# Altium footprint library inductor-nkl.PCBLIB: 59 footprints (part 1 of 4)
Each footprint in its own frame and in the unit in brackets; x right, y up, seen from the top. Pads: shape width x height; smd on the part's side, far side on the other; paste and mask are expansions set on the pad; w line width, h text height; cw(c..) or ccw(c..) is an arc to the next point about the centre after c.
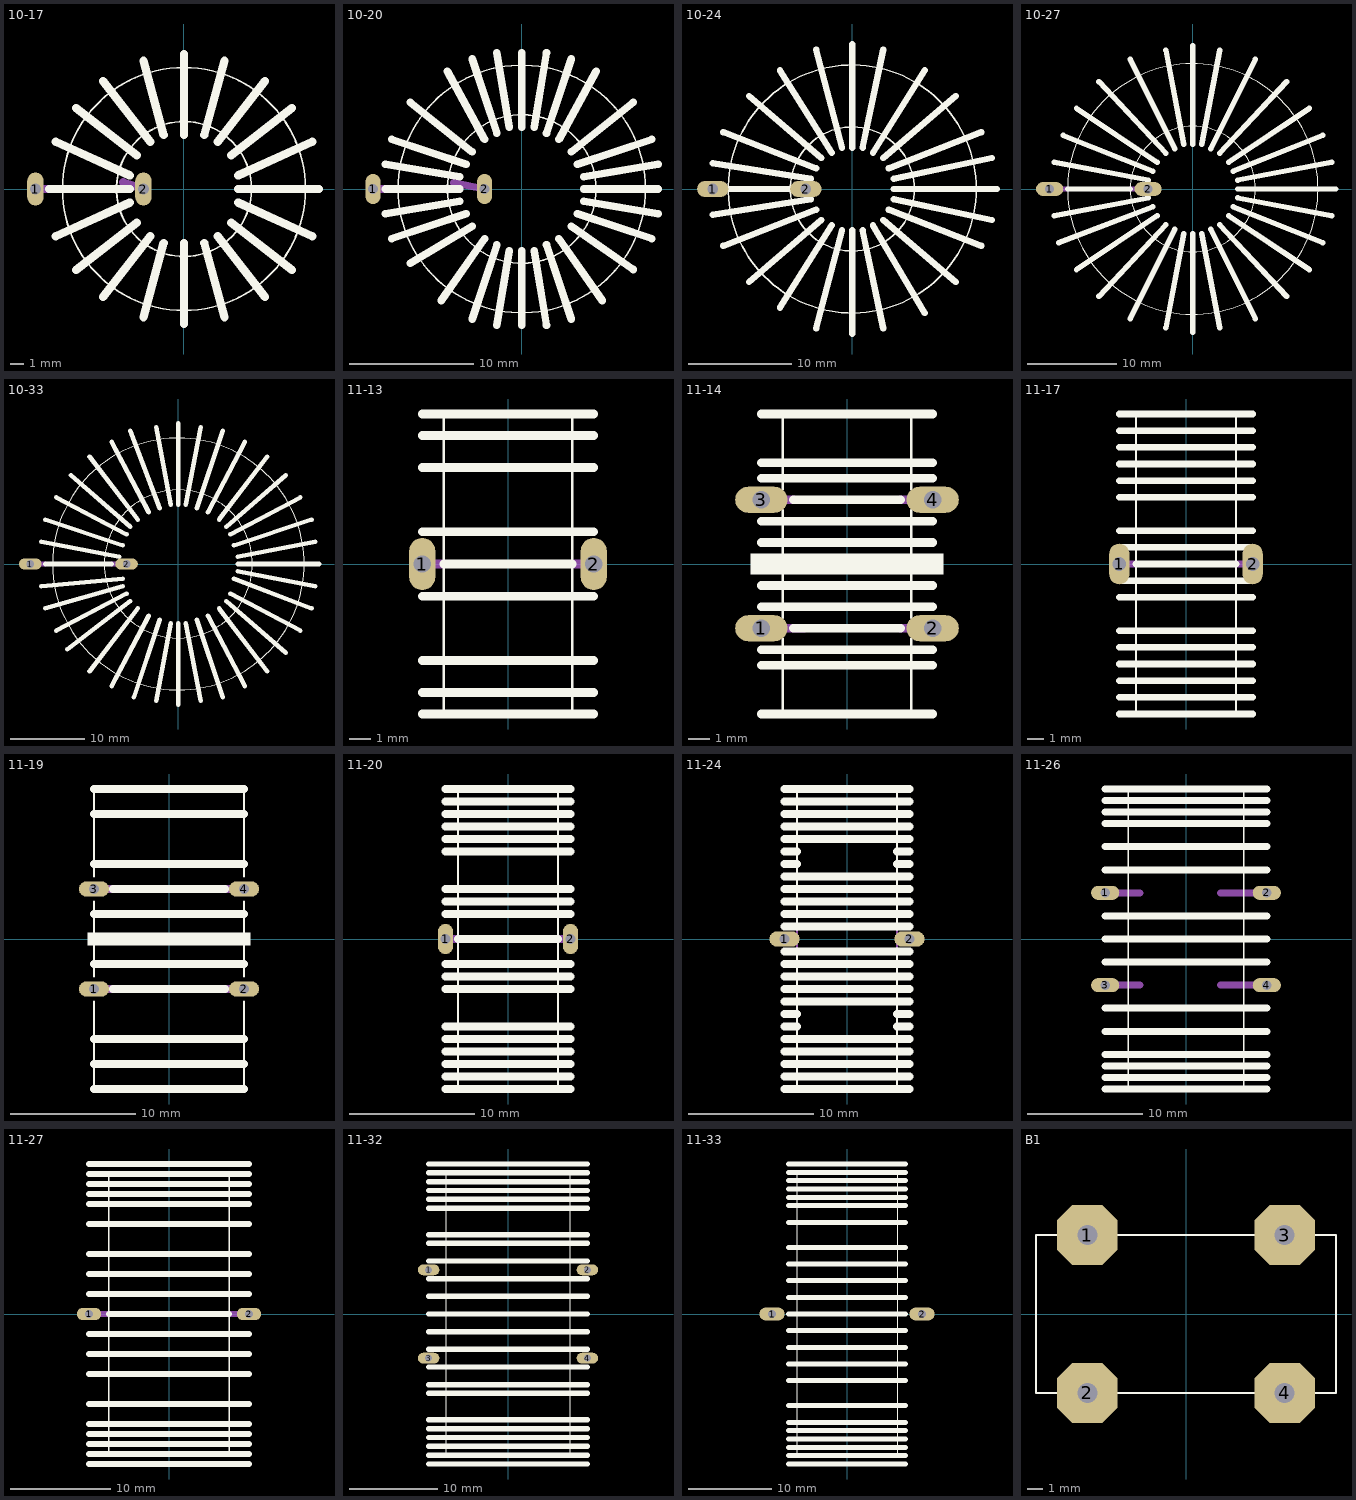
[diagram p0: the footprints below, top view; thin cyan lines are the x and y axes]

## 10-17 [mil]
pads (2):
  oval 48x96 hole 32: 1(-433.07,0) 2(-118.11,0)
Top Overlay:
  circle w5: c0,0 r354.33
  circle w5: c0,0 r196.85
  lines w24: -393.7,0 -157.48,0 ; -374.02,-137.8 -157.48,-39.37 ; -374.02,137.8 -157.48,39.37 ; -314.96,-236.22 -137.8,-98.43 ; -314.96,236.22 -137.8,98.43 ; -236.22,-314.96 -98.43,-137.8 ; -236.22,314.96 -98.43,137.8 ; -118.11,-374.02 -59.06,-157.48 ; -118.11,374.02 -59.06,157.48 ; 0,-393.7 0,-157.48 ; 0,157.48 0,393.7 ; 59.06,-157.48 118.11,-374.02 ; 59.06,157.48 118.11,374.02 ; 98.43,-137.8 236.22,-314.96 ; 98.43,137.8 236.22,314.96 ; 137.8,-98.43 314.96,-236.22 ; 137.8,98.43 314.96,236.22 ; 157.48,-39.37 374.02,-137.8 ; 157.48,0 393.7,0 ; 157.48,39.37 374.02,137.8
Mechanical 16:
  lines w24: -433.07,0 -393.7,0 ; -177.17,19.69 -118.11,0

## 10-20 [mil]
pads (2):
  oval 48x96 hole 32: 1(-472.44,0) 2(-118.11,0)
Top Overlay:
  circle w5: c0,0 r393.7
  circle w5: c0,0 r236.22
  lines w24: -433.07,-78.74 -196.85,-39.37 ; -433.07,0 -196.85,0 ; -433.07,78.74 -196.85,39.37 ; -413.39,-157.48 -177.17,-78.74 ; -413.39,157.48 -177.17,78.74 ; -354.33,-236.22 -157.48,-118.11 ; -354.33,275.59 -157.48,118.11 ; -255.91,-354.33 -118.11,-157.48 ; -236.22,374.02 -118.11,157.48 ; -157.48,-413.39 -78.74,-177.17 ; -157.48,413.39 -78.74,177.17 ; -78.74,-433.07 -39.37,-196.85 ; -78.74,433.07 -39.37,196.85 ; 0,-433.07 0,-196.85 ; 0,196.85 0,433.07 ; 39.37,-196.85 78.74,-433.07 ; 39.37,196.85 78.74,433.07 ; 78.74,-177.17 157.48,-413.39 ; 78.74,177.17 157.48,413.39 ; 118.11,-157.48 255.91,-354.33 ; 118.11,157.48 236.22,374.02 ; 157.48,-118.11 354.33,-255.91 ; 157.48,118.11 354.33,275.59 ; 177.17,-78.74 413.39,-157.48 ; 177.17,78.74 413.39,157.48 ; 196.85,-39.37 433.07,-78.74 ; 196.85,0 433.07,0 ; 196.85,39.37 433.07,78.74
Mechanical 16:
  lines w24: -472.44,0 -433.07,0 ; -216.54,19.69 -118.11,0

## 10-24 [mil]
pads (2):
  oval 120x60 hole 40: 1(-531.5,0) 2(-177.17,0)
Top Overlay:
  circle w5: c0,0 r472.44
  circle w5: c0,0 r236.22
  lines w24: -531.5,-98.43 -157.48,-39.37 ; -531.5,98.43 -157.48,39.37 ; -492.13,-216.54 -137.8,-78.74 ; -492.13,216.54 -137.8,78.74 ; -472.44,0 -236.22,0 ; -393.7,-354.33 -118.11,-118.11 ; -393.7,354.33 -118.11,118.11 ; -275.59,-452.76 -78.74,-137.8 ; -275.59,452.76 -78.74,137.8 ; -137.8,-531.5 -39.37,-157.48 ; -137.8,531.5 -39.37,157.48 ; 0,-551.18 0,-157.48 ; 0,157.48 0,551.18 ; 39.37,-157.48 118.11,-531.5 ; 39.37,157.48 118.11,531.5 ; 78.74,-137.8 275.59,-472.44 ; 78.74,137.8 275.59,452.76 ; 118.11,-118.11 393.7,-354.33 ; 118.11,118.11 393.7,354.33 ; 137.8,-78.74 492.13,-216.54 ; 137.8,78.74 492.13,216.54 ; 157.48,-39.37 531.5,-118.11 ; 157.48,0 551.18,0 ; 157.48,39.37 531.5,118.11
Mechanical 16:
  lines w24: -531.5,0 -472.44,0 ; -236.22,0 -177.17,0

## 10-27 [mil]
pads (2):
  oval 120x60 hole 40: 1(-629.92,0) 2(-196.85,0)
Top Overlay:
  circle w5: c0,0 r551.18
  circle w5: c0,0 r275.59
  lines w24: -610.24,-118.11 -196.85,-39.37 ; -610.24,118.11 -196.85,39.37 ; -590.55,-236.22 -177.17,-78.74 ; -570.87,236.22 -177.17,78.74 ; -551.18,0 -275.59,0 ; -511.81,-354.33 -157.48,-118.11 ; -511.81,354.33 -157.48,118.11 ; -413.39,-472.44 -118.11,-157.48 ; -413.39,472.44 -118.11,157.48 ; -275.59,-570.87 -78.74,-177.17 ; -275.59,570.87 -78.74,177.17 ; -118.11,-610.24 -39.37,-196.85 ; -118.11,610.24 -39.37,196.85 ; 0,-629.92 0,-196.85 ; 0,196.85 0,629.92 ; 39.37,-196.85 118.11,-610.24 ; 39.37,196.85 118.11,610.24 ; 78.74,-177.17 275.59,-570.87 ; 78.74,177.17 275.59,570.87 ; 118.11,-157.48 413.39,-472.44 ; 118.11,157.48 413.39,472.44 ; 157.48,-118.11 511.81,-354.33 ; 157.48,118.11 511.81,354.33 ; 177.17,-78.74 570.87,-236.22 ; 177.17,78.74 570.87,236.22 ; 196.85,-39.37 610.24,-118.11 ; 196.85,0 629.92,0 ; 196.85,39.37 610.24,118.11
Mechanical 16:
  lines w24: -629.92,0 -551.18,0 ; -275.59,0 -196.85,0

## 10-33 [mil]
pads (2):
  oval 120x60 hole 40: 1(-787.4,0) 2(-275.59,0)
Top Overlay:
  circle w5: c0,0 r669.29
  circle w5: c0,0 r393.7
  lines w24: -728.35,-118.11 -295.28,-78.74 ; -728.35,118.11 -314.96,39.37 ; -708.66,-236.22 -295.28,-118.11 ; -708.66,0 -354.33,0 ; -708.66,236.22 -295.28,98.43 ; -649.61,-354.33 -275.59,-157.48 ; -649.61,354.33 -275.59,157.48 ; -590.55,-452.76 -255.91,-196.85 ; -570.87,472.44 -255.91,196.85 ; -472.44,-570.87 -216.54,-236.22 ; -472.44,570.87 -216.54,236.22 ; -354.33,-649.61 -157.48,-275.59 ; -354.33,649.61 -157.48,275.59 ; -255.91,708.66 -98.43,295.28 ; -236.22,-708.66 -98.43,-295.28 ; -118.11,-728.35 -39.37,-314.96 ; -118.11,728.35 -39.37,314.96 ; 0,-748.03 0,-314.96 ; 0,314.96 0,748.03 ; 39.37,-314.96 118.11,-728.35 ; 39.37,314.96 118.11,728.35 ; 98.43,-295.28 236.22,-708.66 ; 98.43,295.28 236.22,708.66 ; 157.48,-275.59 354.33,-649.61 ; 157.48,275.59 354.33,649.61 ; 216.54,-236.22 472.44,-570.87 ; 216.54,236.22 472.44,570.87 ; 255.91,-196.85 570.87,-472.44 ; 255.91,196.85 570.87,472.44 ; 275.59,-157.48 649.61,-354.33 ; 275.59,157.48 649.61,354.33 ; 295.28,-78.74 708.66,-236.22 ; 295.28,98.43 708.66,236.22 ; 314.96,-39.37 728.35,-118.11 ; 314.96,0 748.03,0 ; 314.96,39.37 728.35,118.11
Mechanical 16:
  lines w24: -787.4,0 -708.66,0 ; -354.33,0 -275.59,0

## 11-13 [mil]
pads (2):
  oval 48x96 hole 32: 1(-157.48,0) 2(157.48,0)
Top Overlay:
  lines w5: -118.11,-275.59 -118.11,0 -118.11,275.59 118.11,275.59 118.11,0 118.11,-275.59 -118.11,-275.59
  lines w16: -157.48,-275.59 157.48,-275.59 ; -157.48,-236.22 157.48,-236.22 ; -157.48,-177.17 157.48,-177.17 ; -157.48,-59.06 157.48,-59.06 ; -157.48,59.06 157.48,59.06 ; -157.48,177.17 157.48,177.17 ; -157.48,236.22 157.48,236.22 ; -157.48,275.59 157.48,275.59 ; -118.11,0 118.11,0
Mechanical 16:
  lines w16: -157.48,0 -118.11,0 ; 118.11,0 157.48,0

## 11-14 [mil]
pads (4):
  oval 96x48 hole 32: 1(-157.48,-118.11) 2(157.48,-118.11) 3(-157.48,118.11) 4(157.48,118.11)
Top Overlay:
  rectangle: -177.17,-19.69 177.17,19.69
  lines w5: -118.11,-137.8 -118.11,-275.59 118.11,-275.59 118.11,-137.8 ; -118.11,-98.43 -118.11,98.43 ; -118.11,137.8 -118.11,275.59 118.11,275.59 118.11,137.8 ; 118.11,-98.43 118.11,98.43
  lines w16: -157.48,-275.59 157.48,-275.59 ; -157.48,-186.22 157.48,-186.22 ; -157.48,-157.48 157.48,-157.48 ; -157.48,-78.74 157.48,-78.74 ; -157.48,-39.37 157.48,-39.37 ; -157.48,39.37 157.48,39.37 ; -157.48,78.74 157.48,78.74 ; -157.48,157.48 157.48,157.48 ; -157.48,186.22 157.48,186.22 ; -157.48,275.59 157.48,275.59 ; -98.43,-118.11 98.43,-118.11 ; -98.43,118.11 98.43,118.11
Mechanical 16:
  lines w16: -157.48,-118.11 -78.74,-118.11 ; -157.48,118.11 -98.43,118.11 ; 98.43,-118.11 157.48,-118.11 ; 98.43,118.11 157.48,118.11

## 11-17 [mil]
pads (2):
  oval 48x96 hole 32: 1(-157.48,0) 2(157.48,0)
Top Overlay:
  lines w5: -118.11,-354.33 118.11,-354.33 118.11,0 118.11,354.33 -118.11,354.33 -118.11,0 -118.11,-354.33
  lines w16: -157.48,-354.33 157.48,-354.33 ; -157.48,-314.96 157.48,-314.96 ; -157.48,-275.59 157.48,-275.59 ; -157.48,-236.22 157.48,-236.22 ; -157.48,-196.85 157.48,-196.85 ; -157.48,-157.48 157.48,-157.48 ; -157.48,-78.74 157.48,-78.74 ; -157.48,-39.37 157.48,-39.37 ; -157.48,39.37 157.48,39.37 ; -157.48,78.74 157.48,78.74 ; -157.48,157.48 157.48,157.48 ; -157.48,196.85 157.48,196.85 ; -157.48,236.22 157.48,236.22 ; -157.48,275.59 157.48,275.59 ; -157.48,314.96 157.48,314.96 ; -157.48,354.33 157.48,354.33 ; -118.11,0 118.11,0
Mechanical 16:
  lines w16: -157.48,0 -118.11,0 ; 118.11,0 157.48,0

## 11-19 [mil]
pads (4):
  oval 96x48 hole 32: 1(-236.22,-157.48) 2(236.22,-157.48) 3(-236.22,157.48) 4(236.22,157.48)
Top Overlay:
  rectangle: -255.91,-19.69 255.91,19.69
  lines w5: -236.22,-472.44 -236.22,-393.7 -236.22,-314.96 -236.22,-196.85 ; -236.22,-118.11 -236.22,-78.74 -236.22,78.74 -236.22,118.11 ; -236.22,196.85 -236.22,236.22 -236.22,393.7 -236.22,472.44 ; 236.22,-472.44 236.22,-393.7 236.22,-314.96 236.22,-196.85 ; 236.22,-118.11 236.22,-78.74 236.22,78.74 236.22,118.11 ; 236.22,196.85 236.22,236.22 236.22,393.7 236.22,472.44
  lines w24: -236.22,-472.44 236.22,-472.44 ; -236.22,-393.7 236.22,-393.7 ; -236.22,-314.96 236.22,-314.96 ; -236.22,-78.74 236.22,-78.74 ; -236.22,78.74 236.22,78.74 ; -236.22,236.22 236.22,236.22 ; -236.22,393.7 236.22,393.7 ; -236.22,472.44 236.22,472.44 ; -177.17,-157.48 177.17,-157.48 ; -177.17,157.48 177.17,157.48
Mechanical 16:
  lines w24: -236.22,-157.48 -157.48,-157.48 ; -236.22,157.48 -157.48,157.48 ; 157.48,-157.48 236.22,-157.48 ; 157.48,157.48 236.22,157.48

## 11-20 [mil]
pads (2):
  oval 48x96 hole 32: 1(-196.85,0) 2(196.85,0)
Top Overlay:
  lines w5: -157.48,-472.44 -157.48,472.44 157.48,472.44 157.48,-472.44 -157.48,-472.44
  lines w24: -196.85,-472.44 196.85,-472.44 ; -196.85,-433.07 196.85,-433.07 ; -196.85,-393.7 196.85,-393.7 ; -196.85,-354.33 196.85,-354.33 ; -196.85,-314.96 196.85,-314.96 ; -196.85,-275.59 196.85,-275.59 ; -196.85,-157.48 196.85,-157.48 ; -196.85,-118.11 196.85,-118.11 ; -196.85,-78.74 196.85,-78.74 ; -196.85,78.74 196.85,78.74 ; -196.85,118.11 196.85,118.11 ; -196.85,157.48 196.85,157.48 ; -196.85,275.59 196.85,275.59 ; -196.85,314.96 196.85,314.96 ; -196.85,354.33 196.85,354.33 ; -196.85,393.7 196.85,393.7 ; -196.85,433.07 196.85,433.07 ; -196.85,472.44 196.85,472.44 ; -157.48,0 157.48,0
Mechanical 16:
  lines w24: -196.85,0 -157.48,0 ; 157.48,0 196.85,0

## 11-24 [mil]
pads (2):
  oval 96x48 hole 32: 1(-196.85,0) 2(196.85,0)
Top Overlay:
  lines w5: -157.48,-472.44 -157.48,-27.56 ; -157.48,27.56 -157.48,472.44 ; 157.48,-472.44 157.48,-27.56 ; 157.48,27.56 157.48,472.44
  lines w24: -196.85,-472.44 -157.48,-472.44 157.48,-472.44 196.85,-472.44 ; -196.85,-433.07 196.85,-433.07 ; -196.85,-393.7 196.85,-393.7 ; -196.85,-354.33 196.85,-354.33 ; -196.85,-314.96 196.85,-314.96 ; -196.85,-275.59 -157.48,-275.59 ; -196.85,-236.22 -157.48,-236.22 ; -196.85,-196.85 196.85,-196.85 ; -196.85,-157.48 196.85,-157.48 ; -196.85,-118.11 196.85,-118.11 ; -196.85,-78.74 196.85,-78.74 ; -196.85,-39.37 196.85,-39.37 ; -196.85,39.37 196.85,39.37 ; -196.85,78.74 196.85,78.74 ; -196.85,118.11 196.85,118.11 ; -196.85,157.48 196.85,157.48 ; -196.85,196.85 196.85,196.85 ; -196.85,236.22 -157.48,236.22 ; -196.85,275.59 -157.48,275.59 ; -196.85,314.96 196.85,314.96 ; -196.85,354.33 196.85,354.33 ; -196.85,393.7 196.85,393.7 ; -196.85,433.07 196.85,433.07 ; -196.85,472.44 -157.48,472.44 157.48,472.44 196.85,472.44 ; 157.48,-275.59 196.85,-275.59 ; 157.48,-236.22 196.85,-236.22 ; 157.48,236.22 196.85,236.22 ; 157.48,275.59 196.85,275.59
Mechanical 16:
  lines w5: -157.48,-472.44 -157.48,472.44 ; 157.48,-472.44 157.48,472.44

## 11-26 [mil]
pads (4):
  oval 96x48 hole 32: 1(-275.59,157.48) 2(275.59,157.48) 3(-275.59,-157.48) 4(275.59,-157.48)
Top Overlay:
  lines w5: -196.85,-511.81 196.85,-511.81 196.85,511.81 -196.85,511.81 -196.85,-511.81
  lines w24: -275.59,-511.81 275.59,-511.81 ; -275.59,-472.44 275.59,-472.44 ; -275.59,-433.07 275.59,-433.07 ; -275.59,-393.7 275.59,-393.7 ; -275.59,-314.96 275.59,-314.96 ; -275.59,-236.22 275.59,-236.22 ; -275.59,-78.74 275.59,-78.74 ; -275.59,0 275.59,0 ; -275.59,78.74 275.59,78.74 ; -275.59,236.22 275.59,236.22 ; -275.59,314.96 275.59,314.96 ; -275.59,393.7 275.59,393.7 ; -275.59,433.07 275.59,433.07 ; -275.59,472.44 275.59,472.44 ; -275.59,511.81 275.59,511.81
Mechanical 16:
  lines w24: -275.59,-157.48 -157.48,-157.48 ; -275.59,157.48 -157.48,157.48 ; 118.11,-157.48 275.59,-157.48 ; 118.11,157.48 275.59,157.48

## 11-27 [mil]
pads (2):
  oval 96x48 hole 32: 1(-314.96,0) 2(314.96,0)
Top Overlay:
  lines w5: -236.22,-551.18 236.22,-551.18 236.22,0 236.22,551.18 -236.22,551.18 -236.22,0 -236.22,-551.18
  lines w24: -314.96,-590.55 314.96,-590.55 ; -314.96,-551.18 314.96,-551.18 ; -314.96,-511.81 314.96,-511.81 ; -314.96,-472.44 314.96,-472.44 ; -314.96,-433.07 314.96,-433.07 ; -314.96,-354.33 314.96,-354.33 ; -314.96,-236.22 314.96,-236.22 ; -314.96,-157.48 314.96,-157.48 ; -314.96,-78.74 314.96,-78.74 ; -314.96,78.74 314.96,78.74 ; -314.96,157.48 314.96,157.48 ; -314.96,236.22 314.96,236.22 ; -314.96,354.33 314.96,354.33 ; -314.96,433.07 314.96,433.07 ; -314.96,472.44 314.96,472.44 ; -314.96,511.81 314.96,511.81 ; -314.96,551.18 314.96,551.18 ; -314.96,590.55 314.96,590.55 ; -236.22,0 236.22,0
Mechanical 16:
  lines w24: -314.96,0 -236.22,0 ; 236.22,0 314.96,0

## 11-32 [mil]
pads (4):
  oval 96x48 hole 32: 1(-354.33,196.85) 2(354.33,196.85) 3(-354.33,-196.85) 4(354.33,-196.85)
Top Overlay:
  lines w5: -275.59,-629.92 275.59,-629.92 275.59,629.92 -275.59,629.92 -275.59,-629.92
  lines w24: -354.33,-669.29 354.33,-669.29 ; -354.33,-629.92 354.33,-629.92 ; -354.33,-590.55 354.33,-590.55 ; -354.33,-551.18 354.33,-551.18 ; -354.33,-511.81 354.33,-511.81 ; -354.33,-472.44 354.33,-472.44 ; -354.33,-354.33 354.33,-354.33 ; -354.33,-314.96 354.33,-314.96 ; -354.33,-236.22 354.33,-236.22 ; -354.33,-157.48 354.33,-157.48 ; -354.33,-78.74 354.33,-78.74 ; -354.33,0 354.33,0 ; -354.33,78.74 354.33,78.74 ; -354.33,157.48 354.33,157.48 ; -354.33,236.22 354.33,236.22 ; -354.33,314.96 354.33,314.96 ; -354.33,354.33 354.33,354.33 ; -354.33,472.44 354.33,472.44 ; -354.33,511.81 354.33,511.81 ; -354.33,551.18 354.33,551.18 ; -354.33,590.55 354.33,590.55 ; -354.33,629.92 354.33,629.92 ; -354.33,669.29 354.33,669.29

## 11-33 [mil]
pads (2):
  oval 120x60 hole 40: 1(-354.33,0) 2(354.33,0)
Top Overlay:
  lines w5: -236.22,-669.29 236.22,-669.29 236.22,669.29 -236.22,669.29 -236.22,-669.29
  lines w24: -275.59,-708.66 275.59,-708.66 ; -275.59,-669.29 275.59,-669.29 ; -275.59,-629.92 275.59,-629.92 ; -275.59,-590.55 275.59,-590.55 ; -275.59,-551.18 275.59,-551.18 ; -275.59,-511.81 275.59,-511.81 ; -275.59,-433.07 275.59,-433.07 ; -275.59,-314.96 275.59,-314.96 ; -275.59,-236.22 275.59,-236.22 ; -275.59,-157.48 275.59,-157.48 ; -275.59,-78.74 275.59,-78.74 ; -275.59,0 275.59,0 ; -275.59,78.74 275.59,78.74 ; -275.59,157.48 275.59,157.48 ; -275.59,236.22 275.59,236.22 ; -275.59,314.96 275.59,314.96 ; -275.59,433.07 275.59,433.07 ; -275.59,511.81 275.59,511.81 ; -275.59,551.18 275.59,551.18 ; -275.59,590.55 275.59,590.55 ; -275.59,629.92 275.59,629.92 ; -275.59,669.29 275.59,669.29 ; -275.59,708.66 275.59,708.66

## B1 [mm]
pads (4):
  oct 3.81x3.81 hole 1.27: 1(-6.25,5) 2(-6.25,-5) 3(6.25,5) 4(6.25,-5)
Top Overlay:
  lines w0.127: -8,-5 -9.5,-5 -9.5,5 -8,5 ; -4.5,-5 4.5,-5 ; -4.5,5 4.5,5 ; 8,-5 9.5,-5 9.5,5 8,5
Mechanical 16:
  lines w0.127: -8,-5 -7,-6.5 -5.5,-6.5 -4.5,-5 ; -8,5 -7,6.5 -5.5,6.5 -4.5,5 ; 4.5,-5 5.5,-6.5 7,-6.5 8,-5 ; 4.5,5 5.5,6.5 7,6.5 8,5